# Altium footprint library HD02-19-M-MSMT.PcbLib: 1 footprints
Each footprint in its own frame and in the unit in brackets; x right, y up, seen from the top. Pads: shape width x height; smd on the part's side, far side on the other; paste and mask are expansions set on the pad; w line width, h text height; cw(c..) or ccw(c..) is an arc to the next point about the centre after c.
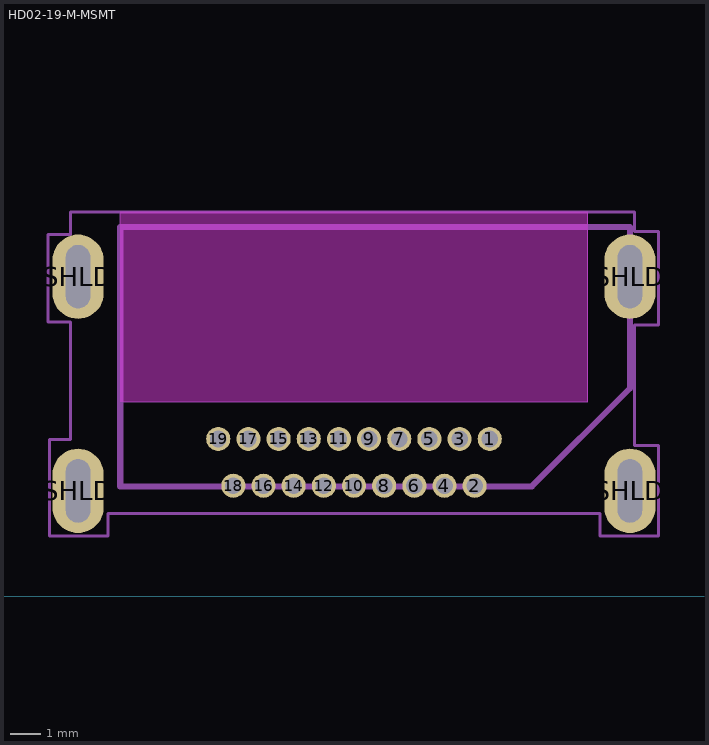
[diagram p0: the footprint, top view; thin cyan lines are the x and y axes]

## HD02-19-M-MSMT [mm]
pads (23):
  round 0.8 hole 0.55 mask+0: 1(-12.6,5.22) 2(-13.1,3.67) 3(-13.6,5.22) 4(-14.1,3.67) 5(-14.6,5.22) 6(-15.1,3.67) 7(-15.6,5.22) 8(-16.1,3.67) 9(-16.6,5.22) 10(-17.1,3.67) 11(-17.6,5.22) 12(-18.1,3.67) 13(-18.6,5.22) 14(-19.1,3.67) 15(-19.6,5.22) 16(-20.1,3.67) 17(-20.6,5.22) 18(-21.1,3.67) 19(-21.6,5.22)
  oval 1.7x2.8 hole 0.8 slot 2.1 at 90 deg mask+0: SHLD(-26.25,3.5) SHLD(-26.25,10.6) SHLD(-7.95,3.5) SHLD(-7.95,10.6)
Top Paste:
  drawing of 23 lines, arcs and shapes, not listed
Keep-Out Layer:
  board cut-out: -9.35,12.75 -24.85,12.75 -24.85,6.45 -9.35,6.45
Mechanical 3:
  lines w0.2: -24.85,3.65 -24.85,12.25 -7.95,12.25 -7.95,6.9 -11.2,3.65 -24.85,3.65
Mechanical 7:
  lines w0.1: -27.25,9.1 -27.25,12 -26.5,12 -26.5,12.75 -7.8,12.75 -7.8,12.1 -7,12.1 -7,9 -7.8,9 -7.8,5 -7,5 -7,2 -8.95,2 -8.95,2.75 -25.25,2.75 -25.25,2 -27.2,2 -27.2,5.2 -26.5,5.2 -26.5,8.3 -26.5,9.1 -27.25,9.1
Mechanical 9:
  text "'.Designator'" at -23.306,7.652 h1.02
Mechanical 11:
  lines w0.01: -26.5,12.75 -24.85,12.75 -24.85,6.45 -9.35,6.45 -9.35,12.75 -7.8,12.75
3D body "CUI_DEVICES_HD02-19-M-MSMT-TR.step": height 3.28, standoff -2.07, extent -26.5,2.75 -7.8,15.2
3D body: height 3.3, standoff -2.08, extent -27.25,2 -7,12.75